# Altium integrated library DS04-254-1L-06BK.IntLib: 1 symbol
Pins are listed as number, name and electrical type; pins without a type are passive.

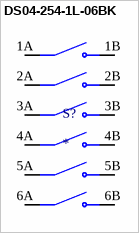
[diagram p0: symbol DS04-254-1L-06BK]

## DS04-254-1L-06BK
designator S?
MP: DS04-254-1L-06BK; Package: None; Value: *; Availability: Unavailable; Price: None
footprint SW_DS04-254-1L-06BK
pins: 1A COM1, 1B NO1, 2A COM2, 2B NO2, 3A COM3, 3B NO3, 4A COM4, 4B NO4, 5A COM5, 5B NO5, 6A COM6, 6B NO6